# Altium footprint library SOP65P490X110-12N.PCBLIB: 1 footprints
Each footprint in its own frame and in the unit in brackets; x right, y up, seen from the top. Pads: shape width x height; smd on the part's side, far side on the other; paste and mask are expansions set on the pad; w line width, h text height; cw(c..) or ccw(c..) is an arc to the next point about the centre after c.
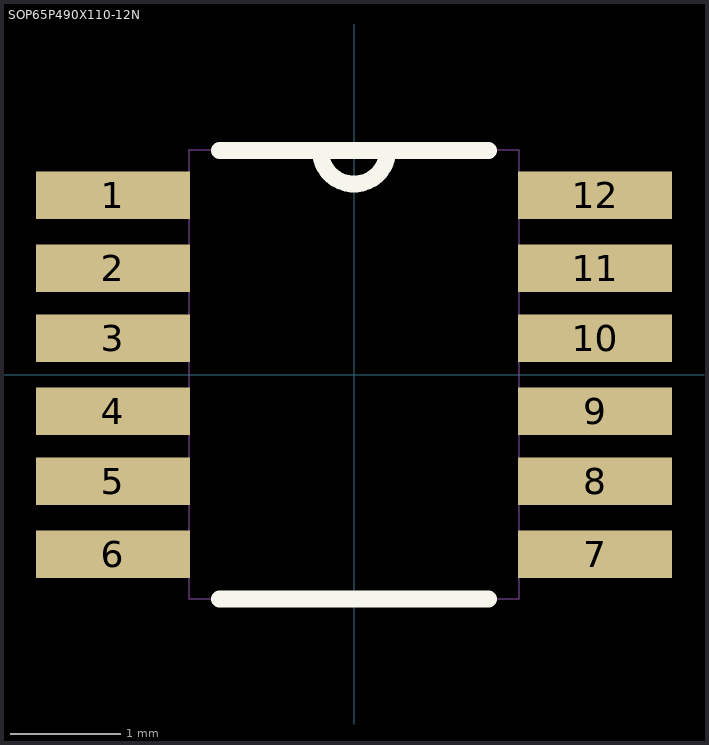
[diagram p0: the footprint, top view; thin cyan lines are the x and y axes]

## SOP65P490X110-12N [mil]
pads (12):
  rect 55x17 smd: 1(-86,64) 2(-86,38) 3(-86,13) 4(-86,-13) 5(-86,-38) 6(-86,-64) 7(86,-64) 8(86,-38) 9(86,-13) 10(86,13) 11(86,38) 12(86,64)
Top Overlay:
  lines w6: -48,-80 48,-80 ; -48,80 -12,80 ; 48,80 12,80 ; -12,80 12,80 ; -12,80 ccw(c0,80) 12,80
Mechanical 16:
  lines w0: -12,80 12,80 ; -12,80 -59,80 -59,-80 59,-80 59,80 12,80 ; -12,80 ccw(c0,80) 12,80 ; -99,-71 -99,-57 -59,-57 -59,-71 -99,-71 ; -99,-46 -99,-31 -59,-31 -59,-46 -99,-46 ; -99,-20 -99,-5 -59,-5 -59,-20 -99,-20 ; -99,5 -99,20 -59,20 -59,5 -99,5 ; -99,31 -99,46 -59,46 -59,31 -99,31 ; -99,57 -99,71 -59,71 -59,57 -99,57 ; 59,-71 59,-57 99,-57 99,-71 59,-71 ; 59,-46 59,-31 99,-31 99,-46 59,-46 ; 59,-20 59,-5 99,-5 99,-20 59,-20 ; 59,5 59,20 99,20 99,5 59,5 ; 59,31 59,46 99,46 99,31 59,31 ; 59,57 59,71 99,71 99,57 59,57